# Altium footprint library fly.PcbLib: 37 footprints (part 3 of 3)
Each footprint in its own frame and in the unit in brackets; x right, y up, seen from the top. Pads: shape width x height; smd on the part's side, far side on the other; paste and mask are expansions set on the pad; w line width, h text height; cw(c..) or ccw(c..) is an arc to the next point about the centre after c.
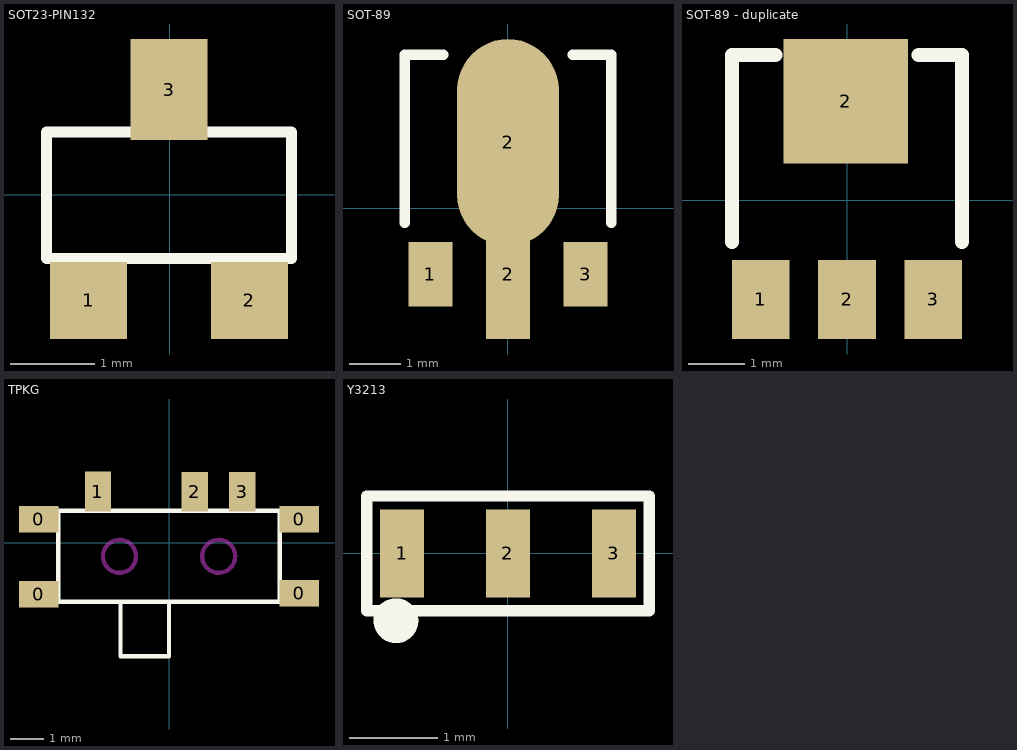
[diagram p2: the footprints below, top view; thin cyan lines are the x and y axes]

## SOT23-PIN132 [mil]
height 236.22
pads (3):
  rect 36x36 smd: 1(-37.86,-49.43) 2(37.14,-49.43)
  rect 36x47.24 smd: 3(-0.36,48.99)
Top Overlay:
  lines w5.12: -57.45,-29.75 -57.45,29.31 56.73,29.31 56.73,-29.75 -57.45,-29.75
3D body "SOT-23-3.STEP": height 47.24, standoff 0, extent -57.08,-55.11 57.1,55.13

## SOT-89 [mil]
pads (4):
  rect 34x50 smd: 1(-60,-51.05) 3(60,-51.05)
  rect 34x100 smd: 2(0,-51.05)
  oval 78.74x160 smd: 2(0,51.05)
Top Overlay:
  lines w8: -80,-11.05 -80,118.95 -50,118.95 ; 50,118.95 80,118.95 80,-11.05

## SOT-89 - duplicate [mil]
pads (4):
  rect 40x55 smd: 1(-60,-68.9) 2(0,-68.9) 3(60,-68.9)
  rect 86.61x86.61 smd: 2(-0.94,68.9)
Top Overlay:
  lines w10: -80,-28.9 -80,101.1 -50,101.1 ; 50,101.1 80,101.1 80,-28.9
3D body "SOT-89.STEP": height 59.45, standoff 0, extent -88.25,-74.77 88.92,94.52

## TPKG [mm]
pads (7):
  rect 1.2x0.8 smd: 0(-3.937,-1.553) 0(-3.937,0.708) 0(3.937,-1.527) 0(3.937,0.708)
  rect 0.8x1.2 smd: 1(-2.148,1.553) 2(0.773,1.546) 3(2.21,1.546)
Top Overlay:
  lines w0.127: -1.467,-1.813 -1.467,-3.431 0,-3.431 0,-1.781 ; -3.347,-1.781 -3.347,0.969 3.353,0.969 3.353,-1.781 -3.347,-1.781
Keep-Out Layer:
  circle w0.127: c-1.497,-0.406 r0.5
  circle w0.127: c1.503,-0.406 r0.5

## Y3213 [mm]
height 6
pads (3):
  rect 0.5x1 smd: 1(-1.2,0) 2(0,0) 3(1.2,0)
Top Overlay:
  circle w0.254: c-1.27,-0.762 r0.127
  lines w0.127: -1.6,-0.65 -1.6,0.65 1.6,0.65 1.6,-0.65 -1.6,-0.65
3D body: height 0.8, standoff 0, extent -1.524,-0.635 1.524,0.635